# EAGLE library part PCF8563T_5,518 (library PCF8563T_SO8)
Real Time Clock Source: Datasheet <http://www.nxp.com/docs/en/data-sheet/PCF8563.pdf>
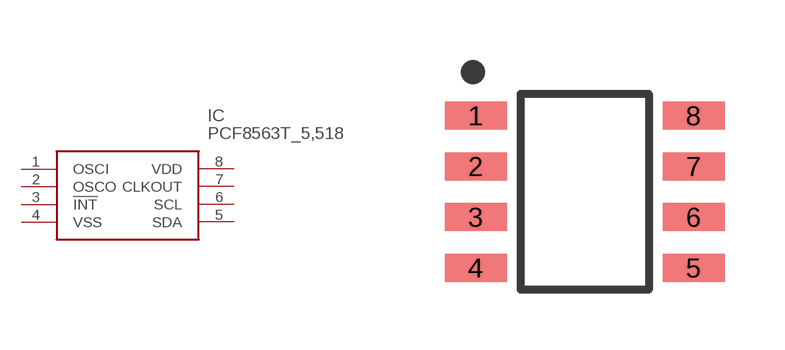
[diagram p0: symbol with the pads of SOIC127P600X175-8N; footprint SOIC127P600X175-8N]

Designator prefix IC

## PCF8563T_5,518 (DESCRIPTION: Real Time Clock; HEIGHT: 1.75mm; MANUFACTURER_NAME: NXP; MANUFACTURER_PART_NUMBER: PCF8563T/5,518)  [SOIC127P600X175-8N]
1  OSCI
2  OSCO
3  !INT
4  VSS
5  SDA
6  SCL
7  CLKOUT
8  VDD

## Footprint SOIC127P600X175-8N (pad centres in mm)
SO8
smd 1.55 x 0.7: 1 -2.725,1.905; 2 -2.725,0.635; 3 -2.725,-0.635; 4 -2.725,-1.905; 5 2.725,-1.905; 6 2.725,-0.635; 7 2.725,0.635; 8 2.725,1.905